# Altium footprint library RJ-45_GBE.PcbLib: 1 footprints
Each footprint in its own frame and in the unit in brackets; x right, y up, seen from the top. Pads: shape width x height; smd on the part's side, far side on the other; paste and mask are expansions set on the pad; w line width, h text height; cw(c..) or ccw(c..) is an arc to the next point about the centre after c.
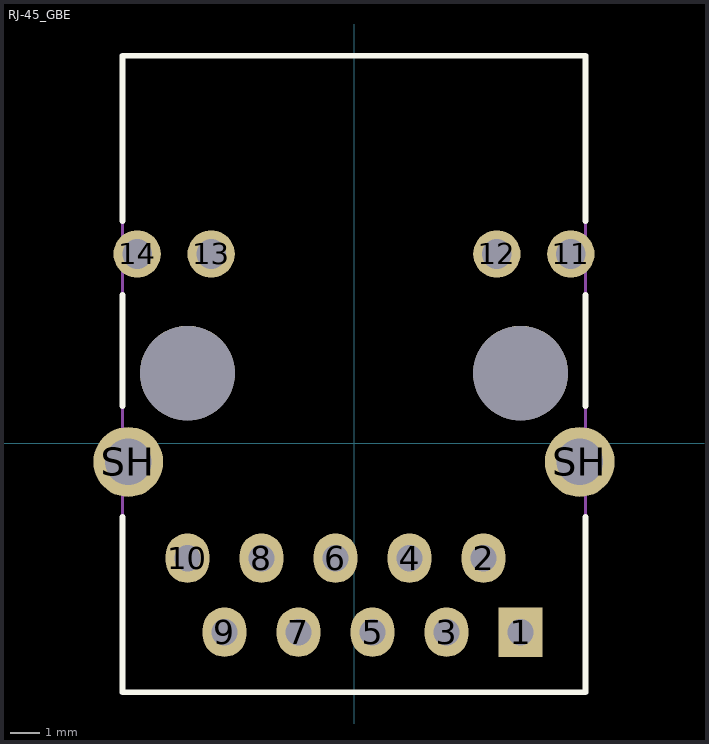
[diagram p0: the footprint, top view; thin cyan lines are the x and y axes]

## RJ-45_GBE [mil]
pads (18):
  rect 59.06x66.93 hole 35.43: 1(225,-255.5)
  oval 59.06x66.93 hole 35.43: 2(175,-155.5) 3(125,-255.5) 4(75,-155.5) 5(25,-255.5) 6(-25,-155.5) 7(-75,-255.5) 8(-125,-155.5) 9(-175,-255.5) 10(-225,-155.5)
  round 64 hole 40: 11(293,255.5) 12(193,255.5) 13(-193,255.5) 14(-293,255.5)
  round 94.49 hole 62.99: SH(-305,-25.5) SH(305,-25.5)
  round 128 hole 128 unplated: ""(-225,94.5) ""(225,94.5)
Top Overlay:
  lines w7.87: -312.6,-100 -312.6,-336.6 312.6,-336.6 312.6,-100 ; -312.6,50 -312.6,200 ; -312.6,300 -312.6,523.24 312.6,523.24 312.6,300 ; 312.6,50 312.6,200
Mechanical 13:
  lines w3.94: -312.6,-336.6 312.6,-336.6 312.6,523.24 -312.6,523.24 -312.6,-336.6
3D body: height 527.56, standoff 0, extent -312.6,-336.6 312.6,523.24